# Altium footprint library QFN50P500X600X90-37N.PcbLib: 1 footprints
Each footprint in its own frame and in the unit in brackets; x right, y up, seen from the top. Pads: shape width x height; smd on the part's side, far side on the other; paste and mask are expansions set on the pad; w line width, h text height; cw(c..) or ccw(c..) is an arc to the next point about the centre after c.
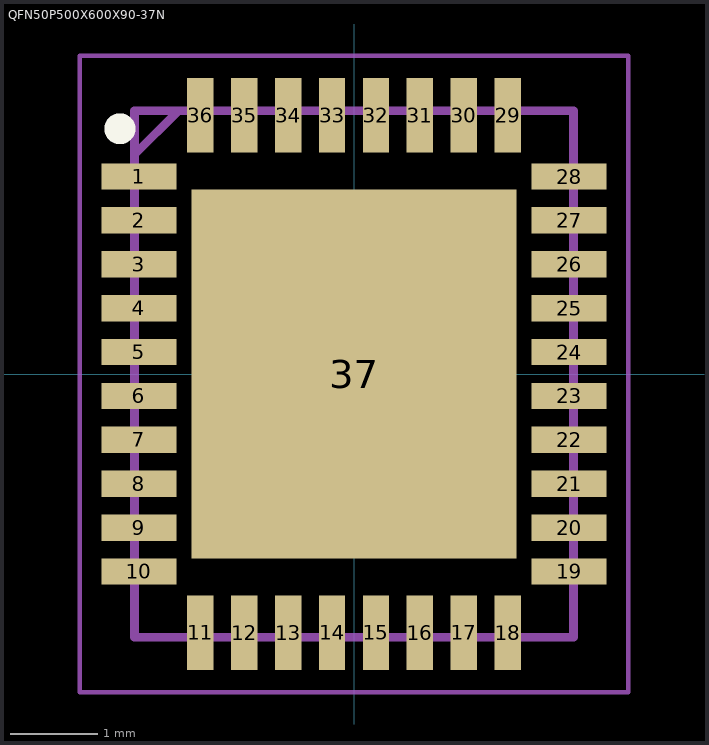
[diagram p0: the footprint, top view; thin cyan lines are the x and y axes]

## QFN50P500X600X90-37N [mm]
pads (37):
  rect 0.85x0.3 smd: 1(-2.45,2.25) 2(-2.45,1.75) 3(-2.45,1.25) 4(-2.45,0.75) 5(-2.45,0.25) 6(-2.45,-0.25) 7(-2.45,-0.75) 8(-2.45,-1.25) 9(-2.45,-1.75) 10(-2.45,-2.25) 19(2.45,-2.25) 20(2.45,-1.75) 21(2.45,-1.25) 22(2.45,-0.75) 23(2.45,-0.25) 24(2.45,0.25) 25(2.45,0.75) 26(2.45,1.25) 27(2.45,1.75) 28(2.45,2.25)
  rect 0.3x0.85 smd: 11(-1.75,-2.95) 12(-1.25,-2.95) 13(-0.75,-2.95) 14(-0.25,-2.95) 15(0.25,-2.95) 16(0.75,-2.95) 17(1.25,-2.95) 18(1.75,-2.95) 29(1.75,2.95) 30(1.25,2.95) 31(0.75,2.95) 32(0.25,2.95) 33(-0.25,2.95) 34(-0.75,2.95) 35(-1.25,2.95) 36(-1.75,2.95)
  rect 3.7x4.2 smd: 37(0,0)
Top Overlay:
  circle w0.25: c-2.667,2.794 r0.051
Mechanical 15:
  lines w0.1: -2.5,2.5 -2,3 ; -2.5,-3 -2.5,3 2.5,3 2.5,-3 -2.5,-3
Mechanical 20:
  lines w0.05: -3.125,-3.625 -3.125,3.625 3.125,3.625 3.125,-3.625 -3.125,-3.625
3D body "TMC2130-LA.stp": height 0.9, standoff 0, extent -2.55,-3.059 2.55,3.041